# Altium footprint library PLS2-3.PcbLib: 1 footprints
Each footprint in its own frame and in the unit in brackets; x right, y up, seen from the top. Pads: shape width x height; smd on the part's side, far side on the other; paste and mask are expansions set on the pad; w line width, h text height; cw(c..) or ccw(c..) is an arc to the next point about the centre after c.
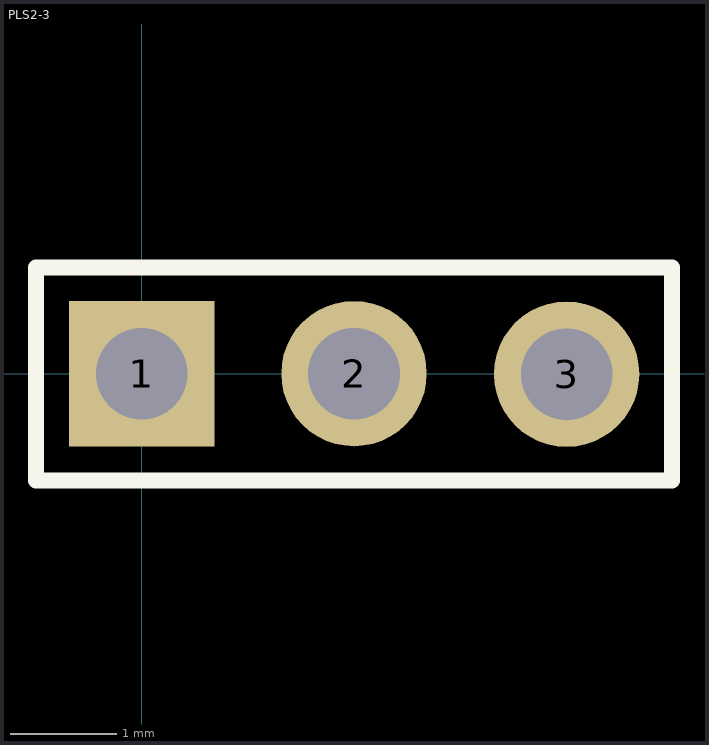
[diagram p0: the footprint, top view; thin cyan lines are the x and y axes]

## PLS2-3 [mil]
pads (3):
  rect 54x54 hole 34: 1(0,0)
  round 54 hole 34: 2(78.74,0) 3(157.65,-0.22)
Top Overlay:
  lines w5.91: -39.37,-39.65 196.85,-39.65 196.85,39.37 -39.37,39.37 -39.37,-39.65
Mechanical 15:
  text "'.Designator'" at -5.26,-7.87 h78.74
3D body "PLS2-3.STEP": height 246.46, standoff -100, extent -39.37,-39.37 196.85,39.37